# EAGLE library part BQ24192?* (library BQ2419x)
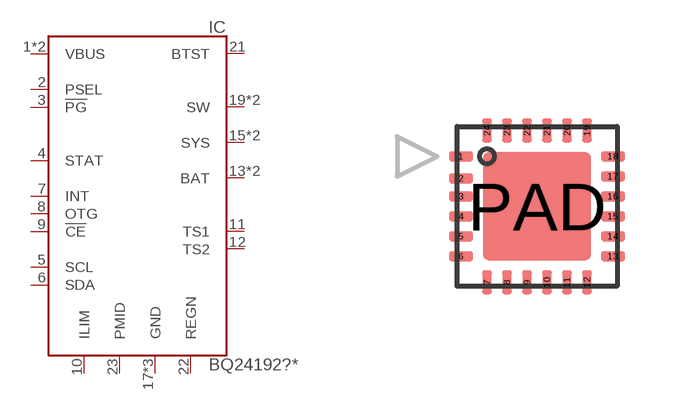
[diagram p0: symbol with the pads of QFN24-0.5-4X4; footprint QFN24-0.5-4X4]

Designator prefix IC

## BQ24192RGER (MARK: BQ24192; MF: Texas Instruments; MPN: BQ24192RGER), BQ24192RGET (MARK: BQ24192; MF: Texas Instruments; MPN: BQ24192RGET)  [QFN24-0.5-4X4]
1  VBUS  in
2  PSEL  in
3  !PG  oc
4  STAT
5  SCL  oc
6  SDA  oc
7  INT  oc
8  OTG  in
9  !CE  in
10  ILIM
11  TS1  in
12  TS2  in
13  BAT
14  BAT
15  SYS
16  SYS
17  GND  pwr
18  GND  pwr
19  SW
20  SW
21  BTST
22  REGN
23  PMID
24  VBUS  in
PAD  GND  pwr

## Footprint QFN24-0.5-4X4 (pad centres in mm)
smd 0.6 x 0.24: 1 -1.9,1.25; 2 -1.9,0.7; 3 -1.9,0.25; 4 -1.9,-0.25; 5 -1.9,-0.75; 6 -1.9,-1.25; 13 1.9,-1.25; 14 1.9,-0.75; 15 1.9,-0.25; 16 1.9,0.25; 17 1.9,0.75; 18 1.9,1.25
smd 0.24 x 0.6: 7 -1.25,-1.9; 8 -0.75,-1.9; 9 -0.25,-1.9; 10 0.25,-1.9; 11 0.75,-1.9; 12 1.25,-1.9; 19 1.25,1.9; 20 0.75,1.9; 21 0.25,1.9; 22 -0.25,1.9; 23 -0.75,1.9; 24 -1.25,1.9
smd 2.7 x 2.7: PAD 0,0